# Altium footprint library Pads.PcbLib: 71 footprints (part 4 of 5)
Each footprint in its own frame and in the unit in brackets; x right, y up, seen from the top. Pads: shape width x height; smd on the part's side, far side on the other; paste and mask are expansions set on the pad; w line width, h text height; cw(c..) or ccw(c..) is an arc to the next point about the centre after c.
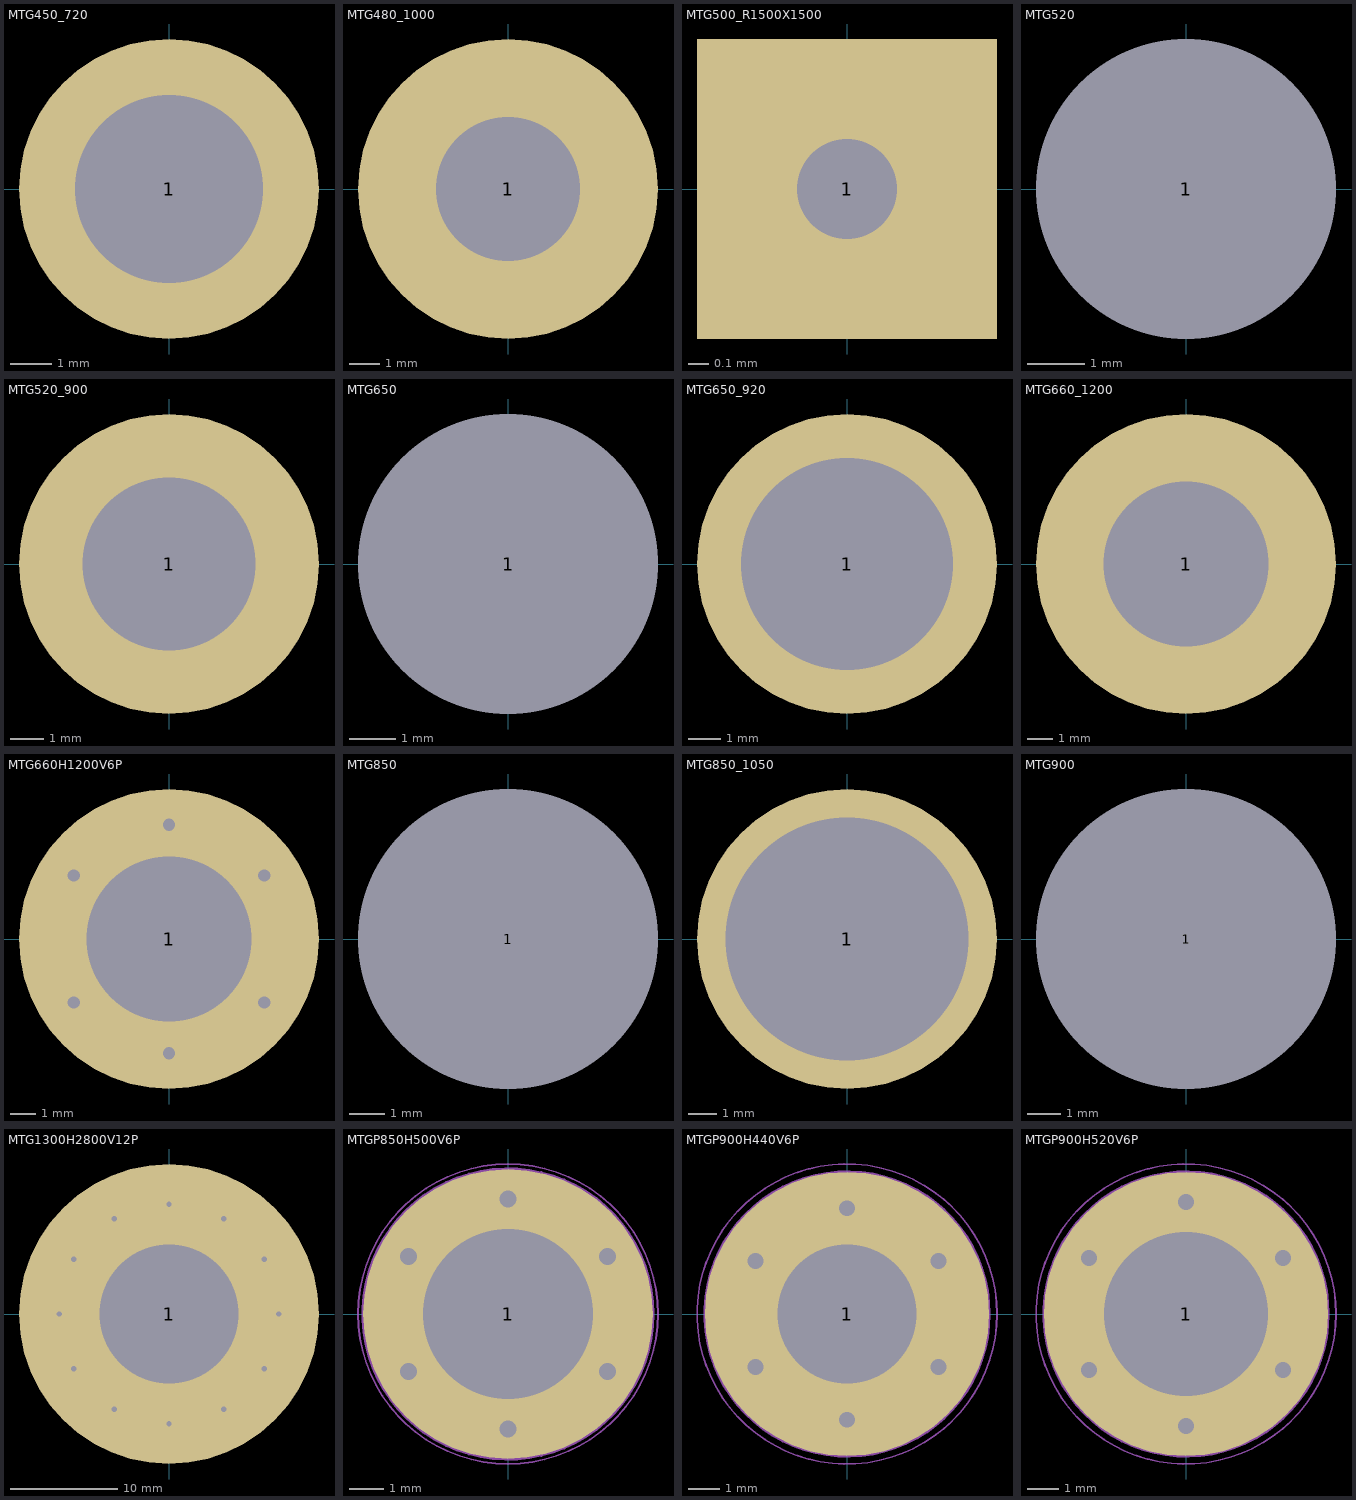
[diagram p3: the footprints below, top view; thin cyan lines are the x and y axes]

## MTG450_720 [mm] "Plated Through Hole: Hole Dia.=4.5mm Pad Dia.=7.2mm"
pads (1):
  round 7.2 hole 4.5: 1(0,0)

## MTG480_1000 [mm] "Plated Through Hole: Hole Dia.=4.8mm Pad Dia.=10.0mm"
pads (1):
  round 10 hole 4.8: 1(0,0)

## MTG500_R1500X1500 [mm] "Plated Through Hole: Hole Dia.=0.5mm Square Pad 1.5mm x 1.5mm"
pads (1):
  rect 1.5x1.5 hole 0.5: 1(0,0)

## MTG520 [mm] "Non Plated Through Hole: Hole Dia.=5.2mm"
pads (1):
  round 0.5 hole 5.2 unplated mask+2.35: 1(0,0)

## MTG520_900 [mm] "Plated Through Hole: Hole Dia.=5.2mm Pad Dia.=9.0mm"
pads (1):
  round 9 hole 5.2: 1(0,0)

## MTG650 [mm] "Non Plated Through Hole: Hole Dia.=6.5mm"
pads (1):
  round 0.5 hole 6.5 unplated mask+3: 1(0,0)

## MTG650_920 [mm] "Plated Through Hole: Hole Dia.=6.5mm Pad Dia.=9.2mm"
pads (1):
  round 9.2 hole 6.5: 1(0,0)

## MTG660_1200 [mm] "Plated Through Hole: Hole Dia.=6.6mm Pad Dia.=12.0mm"
pads (1):
  round 12 hole 6.6: 1(0,0)

## MTG660H1200V6P [mm] "Plated Through Hole: Hole Dia.=6.6mm Pad Dia.=12.0mm + 6 Via Dia.=0.5mm"
pads (1):
  round 12 hole 6.6: 1(0,0)
via -3.81,2.54 diameter 1 hole 0.5
via -3.81,-2.54 diameter 1 hole 0.5
via 3.81,-2.54 diameter 1 hole 0.5
via 3.81,2.54 diameter 1 hole 0.5
via 0,-4.572 diameter 1 hole 0.5
via 0,4.572 diameter 1 hole 0.5

## MTG850 [mm] "Non Plated Through Hole: Hole Dia.=8.5mm"
pads (1):
  round 0.5 hole 8.5 unplated mask+4: 1(0,0)

## MTG850_1050 [mm] "Plated Through Hole: Hole Dia.=8.5mm Pad Dia.=10.5mm"
pads (1):
  round 10.5 hole 8.5: 1(0,0)

## MTG900 [mm] "Non Plated Through Hole: Hole Dia.=9.0mm"
pads (1):
  round 0.5 hole 9 unplated mask+4.25: 1(0,0)

## MTG1300H2800V12P [mm] "Plated Through Hole: Hole Dia.=13.0mm Pad Dia.=28.0mm + 12 Via Dia.=0.5mm"
pads (1):
  round 28 hole 13: 1(0,0)
via 0,10.25 diameter 1 hole 0.5
via 5.125,8.877 diameter 1 hole 0.5
via 8.877,5.125 diameter 1 hole 0.5
via 10.25,0 diameter 1 hole 0.5
via 8.877,-5.125 diameter 1 hole 0.5
via 5.125,-8.877 diameter 1 hole 0.5
via 0,-10.25 diameter 1 hole 0.5
via -5.125,-8.877 diameter 1 hole 0.5
via -8.877,-5.125 diameter 1 hole 0.5
via -10.25,0 diameter 1 hole 0.5
via -8.877,5.125 diameter 1 hole 0.5
via -5.125,8.877 diameter 1 hole 0.5

## MTGP850H500V6P [mm] "Plated Through Hole: Hole Dia.=5mm Pad Dia.=8.5mm + 6 Via Dia.=0.5mm"
pads (1):
  round 8.5 hole 5: 1(0,0)
via 0,3.375 diameter 1 hole 0.5
via 2.923,1.687 diameter 1 hole 0.5
via 2.923,-1.687 diameter 1 hole 0.5
via 0,-3.375 diameter 1 hole 0.5
via -2.923,-1.687 diameter 1 hole 0.5
via -2.923,1.687 diameter 1 hole 0.5
Mechanical 14:
  circle w0.1: c0,0 r4.25
Mechanical 15:
  circle w0.05: c0,0 r4.4

## MTGP900H440V6P [mm] "Plated Through Hole: Hole Dia.=4.4mm Pad Dia.=9mm + 6 Via Dia.=0.5mm"
pads (1):
  round 9 hole 4.4: 1(0,0)
via -2.901,-1.675 diameter 1 hole 0.5
via 2.901,-1.675 diameter 1 hole 0.5
via 0,-3.35 diameter 1 hole 0.5
via 2.901,1.675 diameter 1 hole 0.5
via 0,3.35 diameter 1 hole 0.5
via -2.901,1.675 diameter 1 hole 0.5
Mechanical 8:
  circle w0.1: c0,0 r4.5
  circle w0.1: c0,0 r2.2
  lines w0.1: -3.334,-1.925 -2.901,-1.675 ; -3.334,1.925 -2.901,1.675 ; -3.151,-1.242 -2.901,-1.675 ; -3.151,1.242 -2.901,1.675 ; -2.651,-2.108 -2.901,-1.675 ; -2.651,2.108 -2.901,1.675 ; -2.468,-1.425 -2.901,-1.675 ; -2.468,1.425 -2.901,1.675 ; -0.5,-3.35 0,-3.35 ; -0.5,0 0,0 ; -0.5,3.35 0,3.35 ; 0,-3.85 0,-3.35 ; 0,-2.85 0,-3.35 ; 0,-0.5 0,0 ; 0,0.5 0,0 ; 0,2.85 0,3.35 ; 0,3.85 0,3.35 ; 0.5,-3.35 0,-3.35 ; 0.5,0 0,0 ; 0.5,3.35 0,3.35 ; 2.468,-1.425 2.901,-1.675 ; 2.468,1.425 2.901,1.675 ; 2.651,-2.108 2.901,-1.675 ; 2.651,2.108 2.901,1.675 ; 3.151,-1.242 2.901,-1.675 ; 3.151,1.242 2.901,1.675 ; 3.334,-1.925 2.901,-1.675 ; 3.334,1.925 2.901,1.675
Mechanical 14:
  circle w0.1: c0,0 r4.5
Mechanical 15:
  circle w0.05: c0,0 r4.75

## MTGP900H520V6P [mm] "Plated Through Hole: Hole Dia.=4.4mm Pad Dia.=9mm + 6 Via Dia.=0.5mm"
pads (1):
  round 9 hole 5.2: 1(0,0)
via -3.074,-1.775 diameter 1 hole 0.5
via 3.074,-1.775 diameter 1 hole 0.5
via 0,-3.55 diameter 1 hole 0.5
via 3.074,1.775 diameter 1 hole 0.5
via 0,3.55 diameter 1 hole 0.5
via -3.074,1.775 diameter 1 hole 0.5
Mechanical 8:
  circle w0.1: c0,0 r4.5
  circle w0.1: c0,0 r2.6
  lines w0.1: -3.507,-2.025 -3.074,-1.775 ; -3.507,2.025 -3.074,1.775 ; -3.324,-1.342 -3.074,-1.775 ; -3.324,1.342 -3.074,1.775 ; -2.824,-2.208 -3.074,-1.775 ; -2.824,2.208 -3.074,1.775 ; -2.641,-1.525 -3.074,-1.775 ; -2.641,1.525 -3.074,1.775 ; -0.5,-3.55 0,-3.55 ; -0.5,0 0,0 ; -0.5,3.55 0,3.55 ; 0,-4.05 0,-3.55 ; 0,-3.05 0,-3.55 ; 0,-0.5 0,0 ; 0,0.5 0,0 ; 0,3.05 0,3.55 ; 0,4.05 0,3.55 ; 0.5,-3.55 0,-3.55 ; 0.5,0 0,0 ; 0.5,3.55 0,3.55 ; 2.641,-1.525 3.074,-1.775 ; 2.641,1.525 3.074,1.775 ; 2.824,-2.208 3.074,-1.775 ; 2.824,2.208 3.074,1.775 ; 3.324,-1.342 3.074,-1.775 ; 3.324,1.342 3.074,1.775 ; 3.507,-2.025 3.074,-1.775 ; 3.507,2.025 3.074,1.775
Mechanical 14:
  circle w0.1: c0,0 r4.5
Mechanical 15:
  circle w0.05: c0,0 r4.75